# Altium footprint library SparkFun-Aesthetics.PCBLIB: 126 footprints (part 6 of 8)
Each footprint in its own frame and in the unit in brackets; x right, y up, seen from the top. Pads: shape width x height; smd on the part's side, far side on the other; paste and mask are expansions set on the pad; w line width, h text height; cw(c..) or ccw(c..) is an arc to the next point about the centre after c.
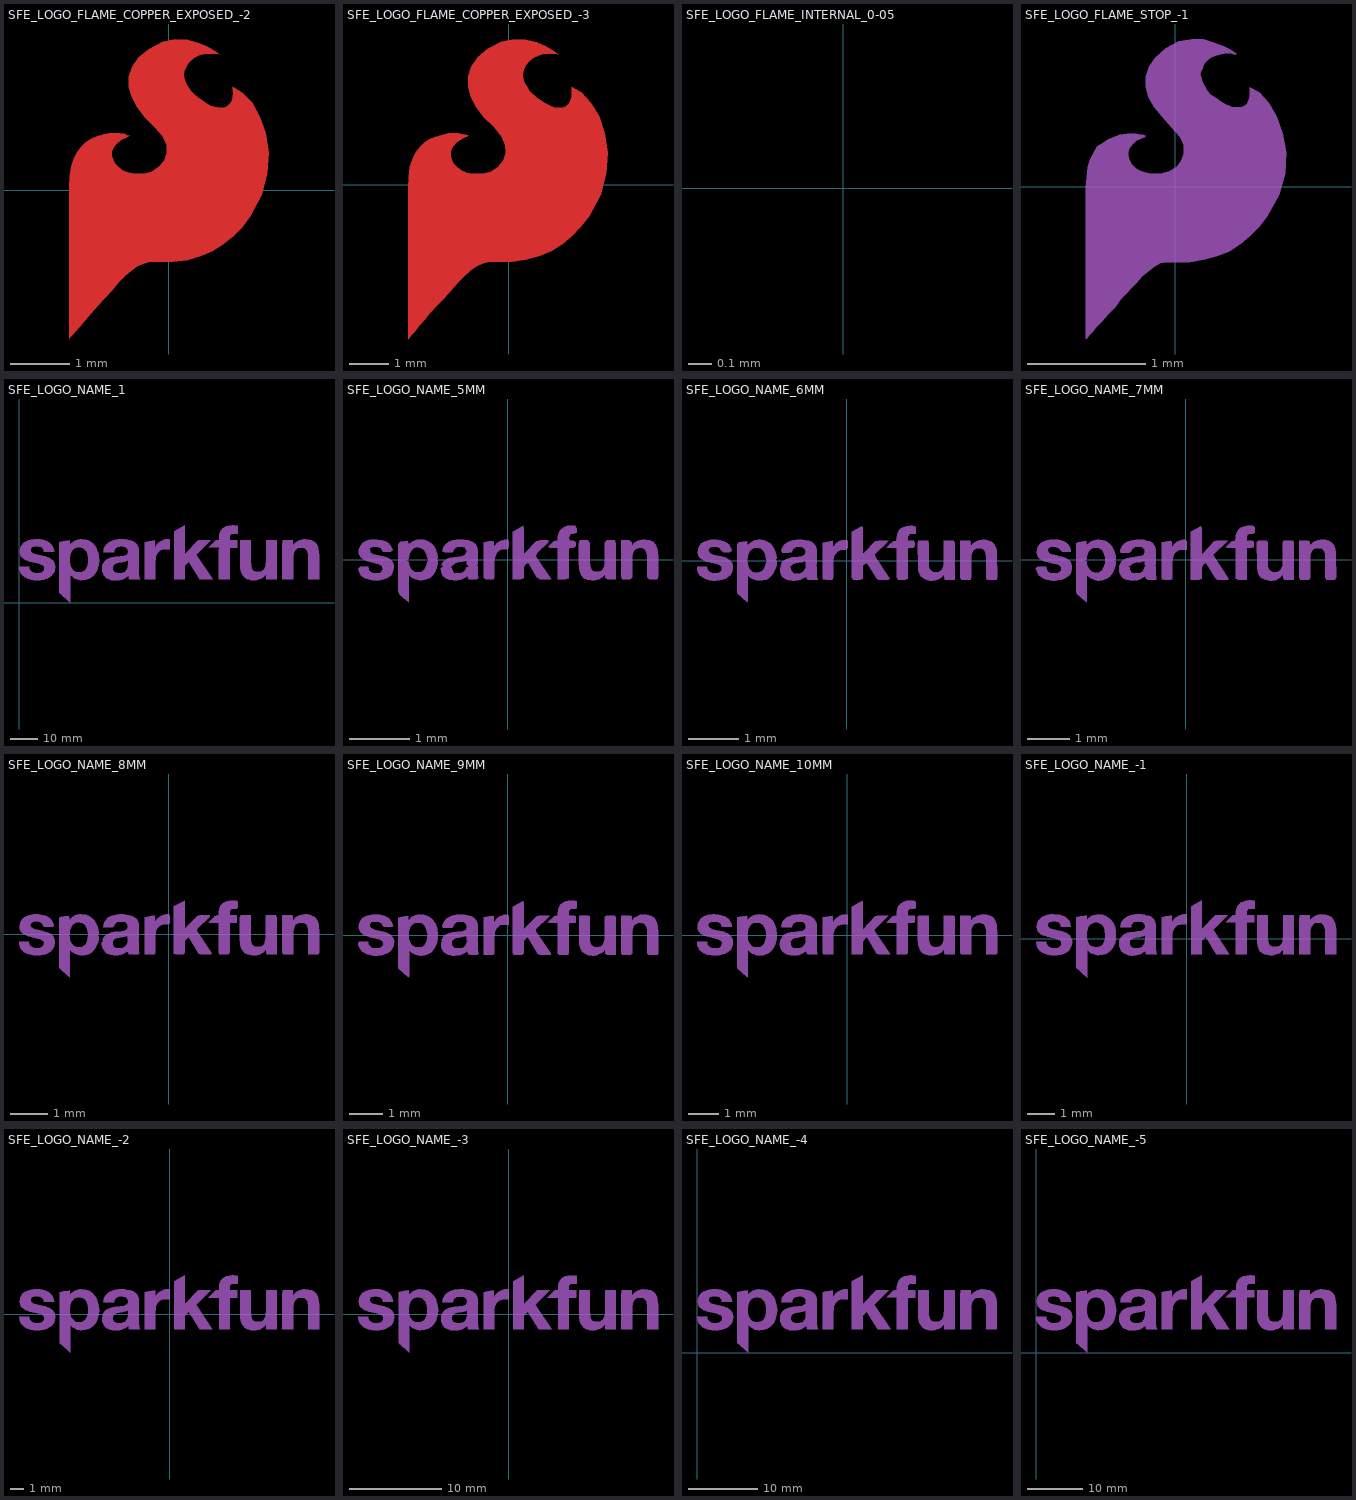
[diagram p5: the footprints below, top view; thin cyan lines are the x and y axes]

## SFE_LOGO_FLAME_COPPER_EXPOSED_-2 [mil]
Top:
  region: 42.83,69.13 42.83,66.77 43.23,64.8 42.44,60.08 41.26,58.11 39.29,56.14 36.54,54.96 33.78,54.96 28.27,56.54 25.12,58.11 19.61,62.05 16.85,64.41 14.88,66.38 12.91,69.53 11.34,71.89 10.55,74.65 10.16,77.01 10.55,79.37 11.34,81.34 12.52,83.7 14.09,85.67 17.24,88.43 20.39,90 23.54,90.79 27.09,91.18 32.2,91.18 33.78,90.79 34.17,90.79 32.99,91.57 30.24,93.54 25.51,96.3 19.61,98.66 12.52,100.63 4.65,101.02 -4.02,99.06 -13.07,94.33 -19.76,88.82 -24.09,82.52 -26.46,75.83 -26.46,69.13 -24.49,62.44 -20.94,55.35 -15.83,48.66 -9.13,41.97 -4.02,36.06 -1.26,30.16 -1.26,24.65 -2.83,19.53 -6.38,15.59 -11.1,12.44 -16.61,10.87 -22.91,10.87 -27.24,12.05 -30.79,13.23 -33.54,15.59 -35.91,17.95 -37.09,20.32 -37.87,23.07 -37.87,25.83 -37.09,28.19 -35.91,29.76 -34.33,31.34 -32.36,32.91 -30.79,34.09 -28.82,34.88 -26.46,36.06 -26.06,36.46 -26.46,36.46 -27.64,36.85 -29.61,37.64 -32.36,38.03 -39.45,38.03 -43.39,37.24 -47.72,36.06 -51.65,34.49 -55.2,32.13 -58.35,28.98 -61.1,25.43 -63.46,21.1 -65.04,15.59 -65.83,9.29 -66.22,1.81 -66.22,-99.37 -65.83,-98.58 -64.25,-97.01 -61.89,-94.25 -59.13,-90.71 -55.59,-86.77 -51.65,-82.05 -47.32,-77.32 -42.6,-72.2 -37.48,-66.69 -33.15,-61.57 -28.82,-57.24 -24.88,-53.7 -20.94,-50.94 -16.61,-48.98 -12.28,-47.8 3.07,-47.8 12.52,-46.61 21.18,-44.25 29.06,-40.71 36.54,-35.98 43.23,-30.87 49.13,-24.57 54.65,-17.48 62.13,-2.91 66.06,11.26 66.85,25.04 64.88,38.03 60.94,49.06 55.83,58.5 49.13,65.2
Top Solder:
  region: 42.83,69.13 42.83,66.77 43.23,64.8 42.44,60.08 41.26,58.11 39.29,56.14 36.54,54.96 33.78,54.96 28.27,56.54 25.12,58.11 19.61,62.05 16.85,64.41 14.88,66.38 12.91,69.53 11.34,71.89 10.55,74.65 10.16,77.01 10.55,79.37 11.34,81.34 12.52,83.7 14.09,85.67 17.24,88.43 20.39,90 23.54,90.79 27.09,91.18 32.2,91.18 33.78,90.79 34.17,90.79 32.99,91.57 30.24,93.54 25.51,96.3 19.61,98.66 12.52,100.63 4.65,101.02 -4.02,99.06 -13.07,94.33 -19.76,88.82 -24.09,82.52 -26.46,75.83 -26.46,69.13 -24.49,62.44 -20.94,55.35 -15.83,48.66 -9.13,41.97 -4.02,36.06 -1.26,30.16 -1.26,24.65 -2.83,19.53 -6.38,15.59 -11.1,12.44 -16.61,10.87 -22.91,10.87 -27.24,12.05 -30.79,13.23 -33.54,15.59 -35.91,17.95 -37.09,20.32 -37.87,23.07 -37.87,25.83 -37.09,28.19 -35.91,29.76 -34.33,31.34 -32.36,32.91 -30.79,34.09 -28.82,34.88 -26.46,36.06 -26.06,36.46 -26.46,36.46 -27.64,36.85 -29.61,37.64 -32.36,38.03 -39.45,38.03 -43.39,37.24 -47.72,36.06 -51.65,34.49 -55.2,32.13 -58.35,28.98 -61.1,25.43 -63.46,21.1 -65.04,15.59 -65.83,9.29 -66.22,1.81 -66.22,-99.37 -65.83,-98.58 -64.25,-97.01 -61.89,-94.25 -59.13,-90.71 -55.59,-86.77 -51.65,-82.05 -47.32,-77.32 -42.6,-72.2 -37.48,-66.69 -33.15,-61.57 -28.82,-57.24 -24.88,-53.7 -20.94,-50.94 -16.61,-48.98 -12.28,-47.8 3.07,-47.8 12.52,-46.61 21.18,-44.25 29.06,-40.71 36.54,-35.98 43.23,-30.87 49.13,-24.57 54.65,-17.48 62.13,-2.91 66.06,11.26 66.85,25.04 64.88,38.03 60.94,49.06 55.83,58.5 49.13,65.2

## SFE_LOGO_FLAME_COPPER_EXPOSED_-3 [mil]
Top:
  region: 63.07,97.48 63.07,96.69 63.46,94.72 63.46,88.43 62.28,84.88 60.71,81.34 57.95,78.58 53.62,77.01 49.69,77.01 45.35,77.8 41.02,79.37 36.69,81.73 28.03,87.24 20.94,94.33 18.19,98.66 15.83,102.6 14.65,106.14 14.25,110.08 14.65,113.23 15.83,116.77 17.8,119.92 20.16,123.07 24.49,126.61 29.61,129.37 34.33,130.55 39.45,131.34 43.39,131.34 46.93,130.94 49.29,130.55 50.08,130.55 48.5,131.73 44.17,134.88 37.09,138.82 28.43,142.76 17.4,145.12 5.59,145.91 -7.4,143.15 -20.79,136.06 -31.02,127.4 -37.32,117.95 -40.47,108.5 -40.47,98.27 -37.72,88.03 -32.2,77.8 -24.72,67.56 -14.49,57.32 -7.01,48.27 -3.07,39.61 -2.68,31.34 -5.43,23.86 -10.55,17.56 -17.64,13.23 -26.3,10.87 -35.75,10.87 -42.05,12.05 -47.17,14.41 -51.5,17.56 -54.65,21.1 -57.01,25.04 -57.8,28.98 -57.8,32.91 -57.01,36.46 -55.04,39.21 -52.68,41.57 -49.92,43.94 -44.41,47.09 -42.05,47.87 -40.87,48.66 -40.08,49.06 -40.87,49.45 -42.83,49.84 -45.59,50.63 -49.92,51.42 -54.65,51.81 -60.16,51.42 -66.06,50.24 -72.76,48.27 -78.27,45.91 -83.78,42.36 -88.5,38.03 -92.83,32.52 -95.98,25.83 -98.74,17.95 -99.92,8.11 -100.32,-3.31 -100.32,-154.49 -99.53,-153.7 -97.56,-150.94 -94.02,-147.01 -89.69,-141.89 -84.57,-135.59 -78.66,-128.9 -71.97,-121.42 -64.88,-113.94 -57.4,-105.67 -50.71,-98.19 -44.41,-91.89 -38.5,-86.38 -32.6,-82.05 -26.3,-78.9 -19.21,-77.32 3.62,-77.32 17.4,-75.35 30.39,-71.81 42.6,-66.69 53.62,-59.61 63.46,-51.73 72.52,-42.28 80.79,-31.65 92.2,-10 98.11,11.65 99.29,32.13 96.54,51.42 90.63,68.35 82.36,82.13 72.91,92.36 62.68,97.87
Top Solder:
  region: 63.07,97.48 63.07,96.69 63.46,94.72 63.46,88.43 62.28,84.88 60.71,81.34 57.95,78.58 53.62,77.01 49.69,77.01 45.35,77.8 41.02,79.37 36.69,81.73 28.03,87.24 20.94,94.33 18.19,98.66 15.83,102.6 14.65,106.14 14.25,110.08 14.65,113.23 15.83,116.77 17.8,119.92 20.16,123.07 24.49,126.61 29.61,129.37 34.33,130.55 39.45,131.34 43.39,131.34 46.93,130.94 49.29,130.55 50.08,130.55 48.5,131.73 44.17,134.88 37.09,138.82 28.43,142.76 17.4,145.12 5.59,145.91 -7.4,143.15 -20.79,136.06 -31.02,127.4 -37.32,117.95 -40.47,108.5 -40.47,98.27 -37.72,88.03 -32.2,77.8 -24.72,67.56 -14.49,57.32 -7.01,48.27 -3.07,39.61 -2.68,31.34 -5.43,23.86 -10.55,17.56 -17.64,13.23 -26.3,10.87 -35.75,10.87 -42.05,12.05 -47.17,14.41 -51.5,17.56 -54.65,21.1 -57.01,25.04 -57.8,28.98 -57.8,32.91 -57.01,36.46 -55.04,39.21 -52.68,41.57 -49.92,43.94 -44.41,47.09 -42.05,47.87 -40.87,48.66 -40.08,49.06 -40.87,49.45 -42.83,49.84 -45.59,50.63 -49.92,51.42 -54.65,51.81 -60.16,51.42 -66.06,50.24 -72.76,48.27 -78.27,45.91 -83.78,42.36 -88.5,38.03 -92.83,32.52 -95.98,25.83 -98.74,17.95 -99.92,8.11 -100.32,-3.31 -100.32,-154.49 -99.53,-153.7 -97.56,-150.94 -94.02,-147.01 -89.69,-141.89 -84.57,-135.59 -78.66,-128.9 -71.97,-121.42 -64.88,-113.94 -57.4,-105.67 -50.71,-98.19 -44.41,-91.89 -38.5,-86.38 -32.6,-82.05 -26.3,-78.9 -19.21,-77.32 3.62,-77.32 17.4,-75.35 30.39,-71.81 42.6,-66.69 53.62,-59.61 63.46,-51.73 72.52,-42.28 80.79,-31.65 92.2,-10 98.11,11.65 99.29,32.13 96.54,51.42 90.63,68.35 82.36,82.13 72.91,92.36 62.68,97.87

## SFE_LOGO_FLAME_INTERNAL_0-05 [mil]
Route15:
  region: 11.34,17.2 11.34,14.45 10.55,13.66 8.19,13.66 5.83,14.84 4.25,16.42 3.46,17.6 3.46,20.35 3.86,21.14 4.65,21.93 5.43,22.32 6.61,22.72 8.58,22.72 8.19,23.11 6.61,23.9 5.43,24.29 3.86,24.69 1.1,24.69 -0.47,24.29 -2.83,23.11 -4.8,21.14 -5.2,20.35 -5.59,19.17 -5.59,16.42 -5.2,15.24 -4.8,14.45 -2.44,11.3 -0.08,8.94 0.32,8.15 0.32,5 -0.08,4.21 -0.87,3.43 -2.44,2.64 -4.02,2.24 -4.41,2.24 -6.38,2.64 -7.17,3.03 -8.35,4.21 -8.74,5 -8.74,6.97 -7.56,8.15 -6.77,8.54 -6.38,8.94 -9.92,8.94 -12.68,7.76 -14.25,6.18 -15.04,4.61 -16,2 -16,-25 -5.2,-13.11 -3.62,-12.32 -2.05,-11.93 1.5,-11.93 4.25,-11.54 6.61,-10.75 8.98,-9.57 10.16,-8.78 12.91,-6.02 15.28,-2.87 16.06,-1.3 16.46,-0.12 16.85,1.46 17.24,3.82 17.24,6.57 16.85,8.94 16.46,10.51 16.06,11.69 14.88,14.06 14.09,14.84 11.73,16.81

## SFE_LOGO_FLAME_STOP_-1 [mil]
Top Solder:
  region: 24.8,33.19 24.8,30.04 24.02,27.68 22.83,26.89 21.65,26.5 18.9,26.5 15.75,28.07 14.57,28.86 12.99,30.04 11.81,30.83 10.63,32.01 9.84,33.58 9.06,34.76 8.66,36.34 8.27,37.52 8.66,38.7 9.06,39.49 9.45,40.67 10.24,41.85 11.81,43.03 13.39,43.82 15.35,44.21 16.93,44.61 18.11,44.61 19.29,44.21 20.47,44.21 20.08,44.61 18.5,45.79 16.14,46.97 12.99,48.15 9.45,49.33 5.51,49.33 1.18,48.54 -3.15,46.18 -6.69,43.03 -8.66,40.28 -9.84,36.73 -9.84,33.58 -9.06,30.04 -7.09,26.5 -4.33,23.35 -1.18,19.8 1.57,16.65 2.76,13.9 2.76,11.14 1.97,8.78 0.39,6.81 -1.97,5.24 -5.12,4.45 -8.27,4.45 -10.24,4.84 -12.2,5.63 -13.39,6.42 -14.57,7.6 -15.35,9.17 -15.75,10.35 -15.75,11.54 -15.35,12.72 -14.57,13.9 -12.99,15.47 -11.81,15.87 -10.24,16.65 -9.84,17.05 -10.63,17.44 -11.42,17.44 -12.99,17.83 -16.14,17.83 -18.5,17.44 -22.44,15.87 -24.02,14.69 -25.98,13.5 -27.17,11.54 -28.35,9.17 -29.13,6.81 -29.92,-0.28 -29.92,-50.67 -29.53,-50.67 -28.74,-49.49 -27.56,-48.31 -26.38,-46.73 -24.41,-44.76 -22.44,-42.4 -20.08,-40.04 -18.11,-37.28 -12.99,-32.17 -11.02,-29.8 -7.09,-26.65 -5.12,-25.47 -2.76,-25.08 4.72,-25.08 9.45,-24.29 13.78,-23.11 17.72,-21.54 21.65,-19.17 24.8,-16.42 27.95,-13.27 30.71,-9.72 34.65,-2.64 36.61,4.45 37.01,11.54 35.83,17.83 33.86,23.35 31.1,28.07 27.95,31.61
tDocu:
  region: 24.8,33.19 24.8,30.04 24.02,27.68 22.83,26.89 21.65,26.5 18.9,26.5 15.75,28.07 14.57,28.86 12.99,30.04 11.81,30.83 10.63,32.01 9.84,33.58 9.06,34.76 8.66,36.34 8.27,37.52 8.66,38.7 9.06,39.49 9.45,40.67 10.24,41.85 11.81,43.03 13.39,43.82 15.35,44.21 16.93,44.61 18.11,44.61 19.29,44.21 20.47,44.21 20.08,44.61 18.5,45.79 16.14,46.97 12.99,48.15 9.45,49.33 5.51,49.33 1.18,48.54 -3.15,46.18 -6.69,43.03 -8.66,40.28 -9.84,36.73 -9.84,33.58 -9.06,30.04 -7.09,26.5 -4.33,23.35 -1.18,19.8 1.57,16.65 2.76,13.9 2.76,11.14 1.97,8.78 0.39,6.81 -1.97,5.24 -5.12,4.45 -8.27,4.45 -10.24,4.84 -12.2,5.63 -13.39,6.42 -14.57,7.6 -15.35,9.17 -15.75,10.35 -15.75,11.54 -15.35,12.72 -14.57,13.9 -12.99,15.47 -11.81,15.87 -10.24,16.65 -9.84,17.05 -10.63,17.44 -11.42,17.44 -12.99,17.83 -16.14,17.83 -18.5,17.44 -22.44,15.87 -24.02,14.69 -25.98,13.5 -27.17,11.54 -28.35,9.17 -29.13,6.81 -29.92,-0.28 -29.92,-50.67 -29.53,-50.67 -28.74,-49.49 -27.56,-48.31 -26.38,-46.73 -24.41,-44.76 -22.44,-42.4 -20.08,-40.04 -18.11,-37.28 -12.99,-32.17 -11.02,-29.8 -7.09,-26.65 -5.12,-25.47 -2.76,-25.08 4.72,-25.08 9.45,-24.29 13.78,-23.11 17.72,-21.54 21.65,-19.17 24.8,-16.42 27.95,-13.27 30.71,-9.72 34.65,-2.64 36.61,4.45 37.01,11.54 35.83,17.83 33.86,23.35 31.1,28.07 27.95,31.61

## SFE_LOGO_NAME_1 [mil]
tPlace:
  drawing of 10 lines, arcs and shapes, not listed

## SFE_LOGO_NAME_5MM [mil]
tPlace:
  drawing of 10 lines, arcs and shapes, not listed

## SFE_LOGO_NAME_6MM [mil]
tPlace:
  drawing of 10 lines, arcs and shapes, not listed

## SFE_LOGO_NAME_7MM [mil]
tPlace:
  drawing of 10 lines, arcs and shapes, not listed

## SFE_LOGO_NAME_8MM [mil]
tPlace:
  drawing of 10 lines, arcs and shapes, not listed

## SFE_LOGO_NAME_9MM [mil]
tPlace:
  drawing of 10 lines, arcs and shapes, not listed

## SFE_LOGO_NAME_10MM [mil]
tPlace:
  drawing of 10 lines, arcs and shapes, not listed

## SFE_LOGO_NAME_-1 [mil]
tPlace:
  drawing of 10 lines, arcs and shapes, not listed

## SFE_LOGO_NAME_-2 [mil]
tPlace:
  drawing of 10 lines, arcs and shapes, not listed

## SFE_LOGO_NAME_-3 [mil]
tPlace:
  drawing of 10 lines, arcs and shapes, not listed

## SFE_LOGO_NAME_-4 [mil]
tPlace:
  drawing of 10 lines, arcs and shapes, not listed

## SFE_LOGO_NAME_-5 [mil]
tPlace:
  drawing of 10 lines, arcs and shapes, not listed